# EAGLE library part SCHEMA_VARIATEUR (library Clean-Kong)
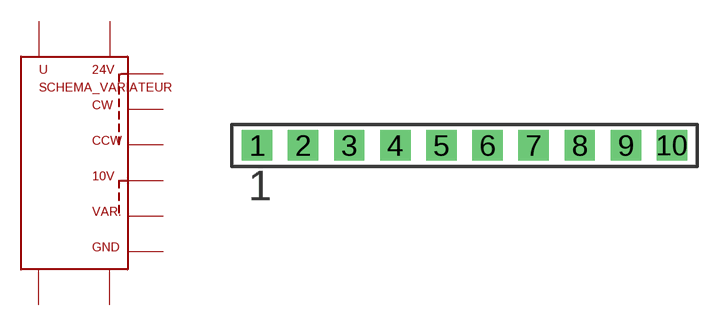
[diagram p19: symbol with the pads of SSW-110-02-S-S; footprint SSW-110-02-S-S]

Designator prefix -

## SCHEMA_VARIATEUR  [SSW-110-02-S-S]
1  P$1
2  P$2
3  P$3
4  P$4
5  P$5
6  P$6
7  P$7
8  P$8
9  P$9
10  P$10

## Footprint SSW-110-02-S-S (pad centres in mm)
THROUGH-HOLE .025" SQ POST SOCKET Source: Samtec SSW.pdf
drill 1 pad 1.676 square: 1 -11.43,0; 2 -8.89,0; 3 -6.35,0; 4 -3.81,0; 5 -1.27,0; 6 1.27,0; 7 3.81,0; 8 6.35,0; 9 8.89,0; 10 11.43,0